# EAGLE library part HN3A51F (library transistor-pnp)
TRANS 2PNP 120V 0.1A
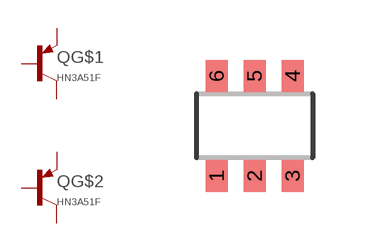
[diagram p3: symbol with the pads of SOT457; footprint SOT457]

Designator prefix Q; gates G$1=PNP G$2=PNP

## HN3A51F (DIGIKEY: HN3A51F(TE85LF)CT-ND; VOLT: 120V)  [SOT457]
1  G$1:C  pas
2  G$1:E  pas
3  G$2:C  pas
4  G$2:E  pas
5  G$2:B  pas
6  G$1:B  pas

## Footprint SOT457 (pad centres in mm)
Small Outline Transistor; 6 leads TSSOP-6, SOT457 (SC-74)
smd 0.55 x 0.8: 1 -0.95,-1.25; 2 0,-1.25; 3 0.95,-1.25; 4 0.95,1.25; 5 0,1.25; 6 -0.95,1.25